# Altium integrated library My_Library_THT_Electrolytic_Capacitor.IntLib: 3 symbols
Pins are listed as number, name and electrical type; pins without a type are passive.

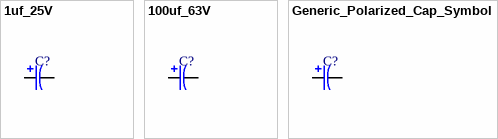
[diagram p0: symbols 1uf_25V to Generic_Polarized_Cap_Symbol]

## 1uf_25V
designator C?
footprint 5x11_THT_Vertical_Radial_Cap
pins: 1 +, 2 -

## 100uf_63V
designator C?
footprint 10x12.5_THT_VERTICAL_RADIAL
pins: 1 +, 2 -

## Generic_Polarized_Cap_Symbol
designator C?
pins: 1 +, 2 -